# Altium footprint library HE3600.PcbLib: 1 footprints
Each footprint in its own frame and in the unit in brackets; x right, y up, seen from the top. Pads: shape width x height; smd on the part's side, far side on the other; paste and mask are expansions set on the pad; w line width, h text height; cw(c..) or ccw(c..) is an arc to the next point about the centre after c.
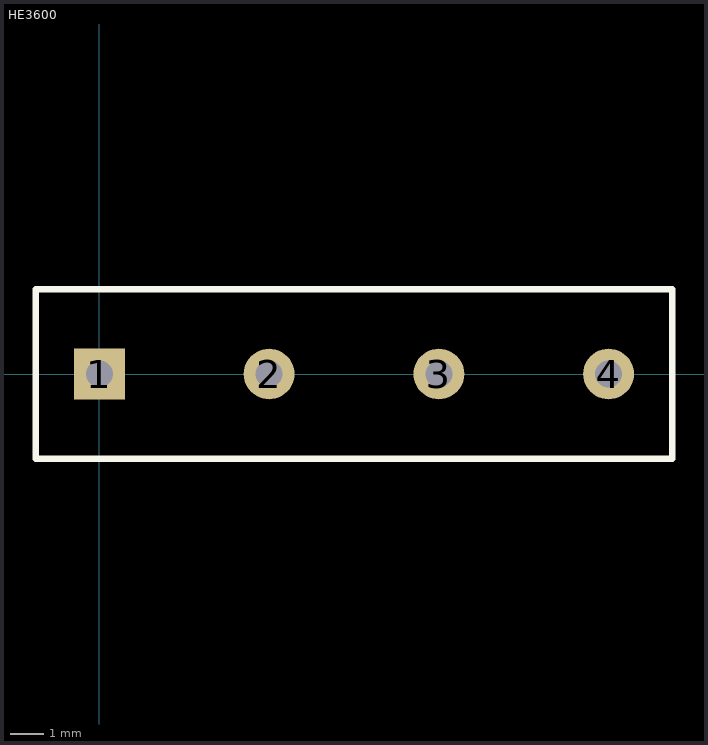
[diagram p0: the footprint, top view; thin cyan lines are the x and y axes]

## HE3600 [mil]
pads (4):
  rect 60x60 hole 32: 1(0,0)
  round 60 hole 32: 2(200,0) 3(400,0) 4(600,0)
Top Overlay:
  lines w7.87: -75,-100 -75,100 675,100 675,-100 -75,-100
3D body: height 295, standoff 0, extent -75,-100 675,100